# Altium footprint library B_S-2WR3.PcbLib: 1 footprints
Each footprint in its own frame and in the unit in brackets; x right, y up, seen from the top. Pads: shape width x height; smd on the part's side, far side on the other; paste and mask are expansions set on the pad; w line width, h text height; cw(c..) or ccw(c..) is an arc to the next point about the centre after c.
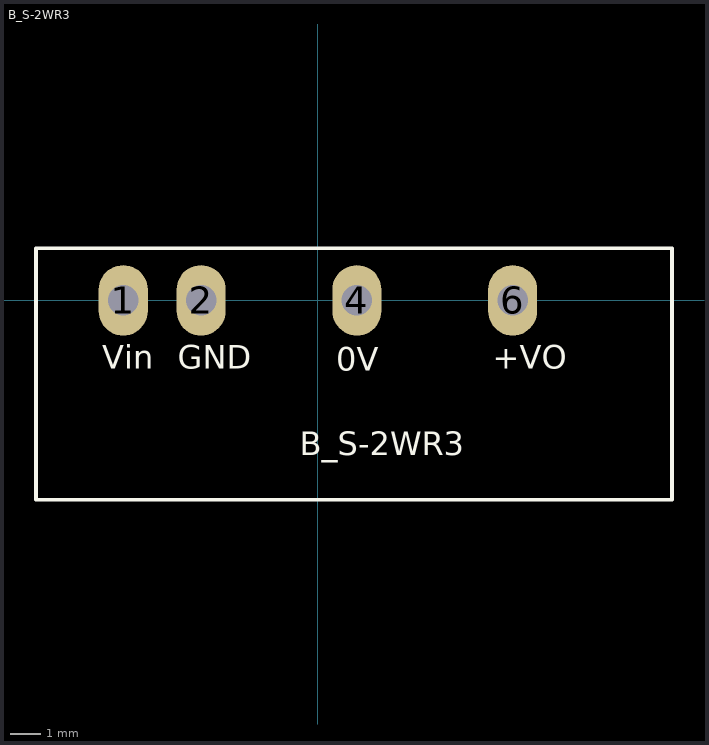
[diagram p0: the footprint, top view; thin cyan lines are the x and y axes]

## B_S-2WR3 [mm]
pads (4):
  oval 1.6x2.3 hole 1: 1(-6.35,0) 2(-3.81,0) 4(1.27,0) 6(6.35,0)
Top Overlay:
  lines w0.127: -9.2,-6.5 11.55,-6.5 11.55,1.7 -9.2,1.7 -9.2,-6.5
  text "B_S-2WR3" at -0.599,-5.055 h0.76
  text "+VO" at 5.697,-2.232 h0.76
  text "GND" at -4.58,-2.232 h0.76
  text "Vin" at -7.028,-2.232 h0.76
  text "0V" at 0.593,-2.288 h0.76
3D body: height 10.16, standoff -4.1, extent -8.563,-6.161 11.087,0.889